# Altium footprint library LGA-14.PcbLib: 1 footprints
Each footprint in its own frame and in the unit in brackets; x right, y up, seen from the top. Pads: shape width x height; smd on the part's side, far side on the other; paste and mask are expansions set on the pad; w line width, h text height; cw(c..) or ccw(c..) is an arc to the next point about the centre after c.
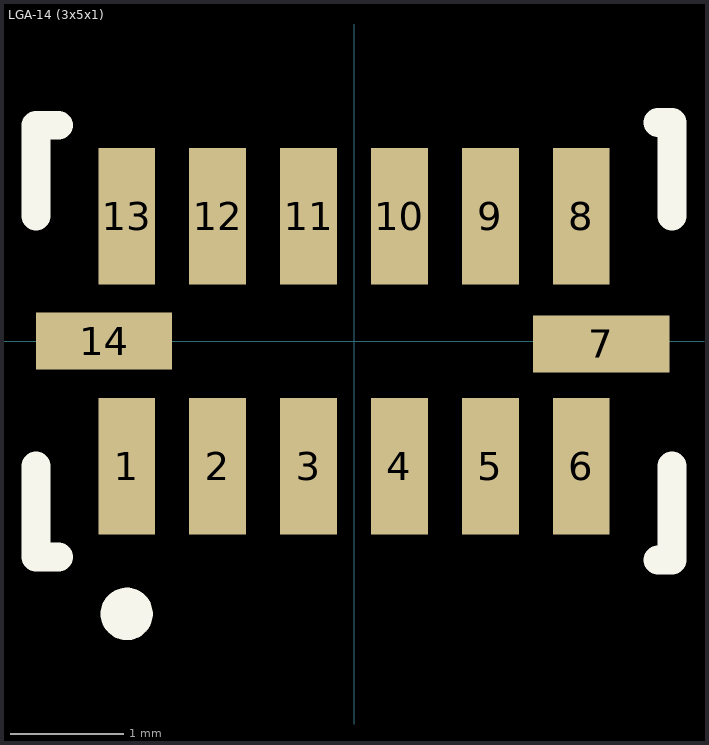
[diagram p0: the footprint, top view; thin cyan lines are the x and y axes]

## LGA-14 (3x5x1) [mm] "Land Grid Array Package"
height 1
pads (14):
  rect 0.5x1.2 smd: 1(-2,-1.1) 2(-1.2,-1.1) 3(-0.4,-1.1) 4(0.4,-1.1) 5(1.2,-1.1) 6(2,-1.1) 8(2,1.1) 9(1.2,1.1) 10(0.4,1.1) 11(-0.4,1.1) 12(-1.2,1.1) 13(-2,1.1)
  rect 1.2x0.5 smd: 7(2.175,-0.025) 14(-2.2,0)
Top Overlay:
  circle w0.254: c-2,-2.4 r0.103
  lines w0.254: -2.8,-1.1 -2.8,-1.9 -2.6,-1.9 ; -2.8,1.1 -2.8,1.9 -2.6,1.9 ; 2.675,1.925 2.8,1.925 2.8,1.1 ; 2.8,-1.1 2.8,-1.925 2.675,-1.925 ; 2.675,-1.925 2.675,-1.925
3D body "SW3dPS-LGA-14.STEP": height 1.03, standoff -0.4, extent -2.5,-1.5 2.5,1.5